# Altium footprint library BGA (1.27mm Pitch, Square2).PcbLib: 13 footprints (part 2 of 2)
Each footprint in its own frame and in the unit in brackets; x right, y up, seen from the top. Pads: shape width x height; smd on the part's side, far side on the other; paste and mask are expansions set on the pad; w line width, h text height; cw(c..) or ccw(c..) is an arc to the next point about the centre after c.
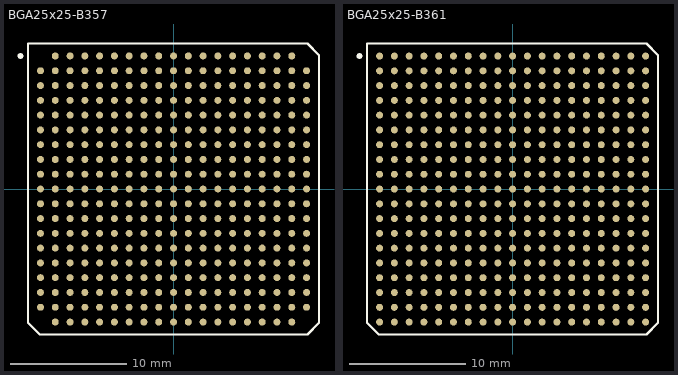
[diagram p1: the footprints below, top view; thin cyan lines are the x and y axes]

## BGA25x25-B357 [mm] "BGA; 357 Balls; Body 25 x 25 mm; Pitch 1.27 mm"
height 2.05
pads (357):
  round 0.6 smd: A2(-10.16,11.43) A3(-8.89,11.43) A4(-7.62,11.43) A5(-6.35,11.43) A6(-5.08,11.43) A7(-3.81,11.43) A8(-2.54,11.43) A9(-1.27,11.43) A10(0,11.43) A11(1.27,11.43) A12(2.54,11.43) A13(3.81,11.43) A14(5.08,11.43) A15(6.35,11.43) A16(7.62,11.43) A17(8.89,11.43) A18(10.16,11.43) B1(-11.43,10.16) B2(-10.16,10.16) B3(-8.89,10.16) B4(-7.62,10.16) B5(-6.35,10.16) B6(-5.08,10.16) B7(-3.81,10.16) B8(-2.54,10.16) B9(-1.27,10.16) B10(0,10.16) B11(1.27,10.16) B12(2.54,10.16) B13(3.81,10.16) B14(5.08,10.16) B15(6.35,10.16) B16(7.62,10.16) B17(8.89,10.16) B18(10.16,10.16) B19(11.43,10.16) C1(-11.43,8.89) C2(-10.16,8.89) C3(-8.89,8.89) C4(-7.62,8.89) C5(-6.35,8.89) C6(-5.08,8.89) C7(-3.81,8.89) C8(-2.54,8.89) C9(-1.27,8.89) C10(0,8.89) C11(1.27,8.89) C12(2.54,8.89) C13(3.81,8.89) C14(5.08,8.89) C15(6.35,8.89) C16(7.62,8.89) C17(8.89,8.89) C18(10.16,8.89) C19(11.43,8.89) D1(-11.43,7.62) D2(-10.16,7.62) D3(-8.89,7.62) D4(-7.62,7.62) D5(-6.35,7.62) D6(-5.08,7.62) D7(-3.81,7.62) D8(-2.54,7.62) D9(-1.27,7.62) D10(0,7.62) D11(1.27,7.62) D12(2.54,7.62) D13(3.81,7.62) D14(5.08,7.62) D15(6.35,7.62) D16(7.62,7.62) D17(8.89,7.62) D18(10.16,7.62) D19(11.43,7.62) E1(-11.43,6.35) E2(-10.16,6.35) E3(-8.89,6.35) E4(-7.62,6.35) E5(-6.35,6.35) E6(-5.08,6.35) E7(-3.81,6.35) E8(-2.54,6.35) E9(-1.27,6.35) E10(0,6.35) E11(1.27,6.35) E12(2.54,6.35) E13(3.81,6.35) E14(5.08,6.35) E15(6.35,6.35) E16(7.62,6.35) E17(8.89,6.35) E18(10.16,6.35) E19(11.43,6.35) F1(-11.43,5.08) F2(-10.16,5.08) F3(-8.89,5.08) F4(-7.62,5.08) F5(-6.35,5.08) F6(-5.08,5.08) F7(-3.81,5.08) F8(-2.54,5.08) F9(-1.27,5.08) F10(0,5.08) F11(1.27,5.08) F12(2.54,5.08) F13(3.81,5.08) F14(5.08,5.08) F15(6.35,5.08) F16(7.62,5.08) F17(8.89,5.08) F18(10.16,5.08) F19(11.43,5.08) G1(-11.43,3.81) G2(-10.16,3.81) G3(-8.89,3.81) G4(-7.62,3.81) G5(-6.35,3.81) G6(-5.08,3.81) G7(-3.81,3.81) G8(-2.54,3.81) G9(-1.27,3.81) G10(0,3.81) G11(1.27,3.81) G12(2.54,3.81) G13(3.81,3.81) G14(5.08,3.81) G15(6.35,3.81) G16(7.62,3.81) G17(8.89,3.81) G18(10.16,3.81) G19(11.43,3.81) H1(-11.43,2.54) H2(-10.16,2.54) H3(-8.89,2.54) H4(-7.62,2.54) H5(-6.35,2.54) H6(-5.08,2.54) H7(-3.81,2.54) H8(-2.54,2.54) H9(-1.27,2.54) H10(0,2.54) H11(1.27,2.54) H12(2.54,2.54) H13(3.81,2.54) H14(5.08,2.54) H15(6.35,2.54) H16(7.62,2.54) H17(8.89,2.54) H18(10.16,2.54) H19(11.43,2.54) J1(-11.43,1.27) J2(-10.16,1.27) J3(-8.89,1.27) J4(-7.62,1.27) J5(-6.35,1.27) J6(-5.08,1.27) J7(-3.81,1.27) J8(-2.54,1.27) J9(-1.27,1.27) J10(0,1.27) J11(1.27,1.27) J12(2.54,1.27) J13(3.81,1.27) J14(5.08,1.27) J15(6.35,1.27) J16(7.62,1.27) J17(8.89,1.27) J18(10.16,1.27) J19(11.43,1.27) K1(-11.43,0) K2(-10.16,0) K3(-8.89,0) K4(-7.62,0) K5(-6.35,0) K6(-5.08,0) K7(-3.81,0) K8(-2.54,0) K9(-1.27,0) K10(0,0) K11(1.27,0) K12(2.54,0) K13(3.81,0) K14(5.08,0) K15(6.35,0) K16(7.62,0) K17(8.89,0) K18(10.16,0) K19(11.43,0) L1(-11.43,-1.27) L2(-10.16,-1.27) L3(-8.89,-1.27) L4(-7.62,-1.27) L5(-6.35,-1.27) L6(-5.08,-1.27) L7(-3.81,-1.27) L8(-2.54,-1.27) L9(-1.27,-1.27) L10(0,-1.27) L11(1.27,-1.27) L12(2.54,-1.27) L13(3.81,-1.27) L14(5.08,-1.27) L15(6.35,-1.27) L16(7.62,-1.27) L17(8.89,-1.27) L18(10.16,-1.27) L19(11.43,-1.27) M1(-11.43,-2.54) M2(-10.16,-2.54) M3(-8.89,-2.54) M4(-7.62,-2.54) M5(-6.35,-2.54) M6(-5.08,-2.54) M7(-3.81,-2.54) M8(-2.54,-2.54) M9(-1.27,-2.54) M10(0,-2.54) M11(1.27,-2.54) M12(2.54,-2.54) M13(3.81,-2.54) M14(5.08,-2.54) M15(6.35,-2.54) M16(7.62,-2.54) M17(8.89,-2.54) M18(10.16,-2.54) M19(11.43,-2.54) N1(-11.43,-3.81) N2(-10.16,-3.81) N3(-8.89,-3.81) N4(-7.62,-3.81) N5(-6.35,-3.81) N6(-5.08,-3.81) N7(-3.81,-3.81) N8(-2.54,-3.81) N9(-1.27,-3.81) N10(0,-3.81) N11(1.27,-3.81) N12(2.54,-3.81) N13(3.81,-3.81) N14(5.08,-3.81) N15(6.35,-3.81) N16(7.62,-3.81) N17(8.89,-3.81) N18(10.16,-3.81) N19(11.43,-3.81) P1(-11.43,-5.08) P2(-10.16,-5.08) P3(-8.89,-5.08) P4(-7.62,-5.08) P5(-6.35,-5.08) P6(-5.08,-5.08) P7(-3.81,-5.08) P8(-2.54,-5.08) P9(-1.27,-5.08) P10(0,-5.08) P11(1.27,-5.08) P12(2.54,-5.08) P13(3.81,-5.08) P14(5.08,-5.08) P15(6.35,-5.08) P16(7.62,-5.08) P17(8.89,-5.08) P18(10.16,-5.08) P19(11.43,-5.08) R1(-11.43,-6.35) R2(-10.16,-6.35) R3(-8.89,-6.35) R4(-7.62,-6.35) R5(-6.35,-6.35) R6(-5.08,-6.35) R7(-3.81,-6.35) R8(-2.54,-6.35) R9(-1.27,-6.35) R10(0,-6.35) R11(1.27,-6.35) R12(2.54,-6.35) R13(3.81,-6.35) R14(5.08,-6.35) R15(6.35,-6.35) R16(7.62,-6.35) R17(8.89,-6.35) R18(10.16,-6.35) R19(11.43,-6.35) S1(-11.43,-7.62) S2(-10.16,-7.62) S3(-8.89,-7.62) S4(-7.62,-7.62) S5(-6.35,-7.62) S6(-5.08,-7.62) S7(-3.81,-7.62) S8(-2.54,-7.62) S9(-1.27,-7.62) S10(0,-7.62) S11(1.27,-7.62) S12(2.54,-7.62) S13(3.81,-7.62) S14(5.08,-7.62) S15(6.35,-7.62) S16(7.62,-7.62) S17(8.89,-7.62) S18(10.16,-7.62) S19(11.43,-7.62) T1(-11.43,-8.89) T2(-10.16,-8.89) T3(-8.89,-8.89) T4(-7.62,-8.89) T5(-6.35,-8.89) T6(-5.08,-8.89) T7(-3.81,-8.89) T8(-2.54,-8.89) T9(-1.27,-8.89) T10(0,-8.89) T11(1.27,-8.89) T12(2.54,-8.89) T13(3.81,-8.89) T14(5.08,-8.89) T15(6.35,-8.89) T16(7.62,-8.89) T17(8.89,-8.89) T18(10.16,-8.89) T19(11.43,-8.89) U1(-11.43,-10.16) U2(-10.16,-10.16) U3(-8.89,-10.16) U4(-7.62,-10.16) U5(-6.35,-10.16) U6(-5.08,-10.16) U7(-3.81,-10.16) U8(-2.54,-10.16) U9(-1.27,-10.16) U10(0,-10.16) U11(1.27,-10.16) U12(2.54,-10.16) U13(3.81,-10.16) U14(5.08,-10.16) U15(6.35,-10.16) U16(7.62,-10.16) U17(8.89,-10.16) U18(10.16,-10.16) U19(11.43,-10.16) V2(-10.16,-11.43) V3(-8.89,-11.43) V4(-7.62,-11.43) V5(-6.35,-11.43) V6(-5.08,-11.43) V7(-3.81,-11.43) V8(-2.54,-11.43) V9(-1.27,-11.43) V10(0,-11.43) V11(1.27,-11.43) V12(2.54,-11.43) V13(3.81,-11.43) V14(5.08,-11.43) V15(6.35,-11.43) V16(7.62,-11.43) V17(8.89,-11.43) V18(10.16,-11.43)
Top Overlay:
  circle w0.25: c-13.15,11.43 r0.125
  lines w0.2: -12.5,-11.5 -11.5,-12.5 11.5,-12.5 12.5,-11.5 12.5,11.5 11.5,12.5 -12.5,12.5 -12.5,-11.5

## BGA25x25-B361 [mm] "BGA; 361 Balls; Body 25 x 25 mm; Pitch 1.27 mm"
height 3.5
pads (361):
  round 0.6 smd: A1(-11.43,11.43) A2(-10.16,11.43) A3(-8.89,11.43) A4(-7.62,11.43) A5(-6.35,11.43) A6(-5.08,11.43) A7(-3.81,11.43) A8(-2.54,11.43) A9(-1.27,11.43) A10(0,11.43) A11(1.27,11.43) A12(2.54,11.43) A13(3.81,11.43) A14(5.08,11.43) A15(6.35,11.43) A16(7.62,11.43) A17(8.89,11.43) A18(10.16,11.43) A19(11.43,11.43) B1(-11.43,10.16) B2(-10.16,10.16) B3(-8.89,10.16) B4(-7.62,10.16) B5(-6.35,10.16) B6(-5.08,10.16) B7(-3.81,10.16) B8(-2.54,10.16) B9(-1.27,10.16) B10(0,10.16) B11(1.27,10.16) B12(2.54,10.16) B13(3.81,10.16) B14(5.08,10.16) B15(6.35,10.16) B16(7.62,10.16) B17(8.89,10.16) B18(10.16,10.16) B19(11.43,10.16) C1(-11.43,8.89) C2(-10.16,8.89) C3(-8.89,8.89) C4(-7.62,8.89) C5(-6.35,8.89) C6(-5.08,8.89) C7(-3.81,8.89) C8(-2.54,8.89) C9(-1.27,8.89) C10(0,8.89) C11(1.27,8.89) C12(2.54,8.89) C13(3.81,8.89) C14(5.08,8.89) C15(6.35,8.89) C16(7.62,8.89) C17(8.89,8.89) C18(10.16,8.89) C19(11.43,8.89) D1(-11.43,7.62) D2(-10.16,7.62) D3(-8.89,7.62) D4(-7.62,7.62) D5(-6.35,7.62) D6(-5.08,7.62) D7(-3.81,7.62) D8(-2.54,7.62) D9(-1.27,7.62) D10(0,7.62) D11(1.27,7.62) D12(2.54,7.62) D13(3.81,7.62) D14(5.08,7.62) D15(6.35,7.62) D16(7.62,7.62) D17(8.89,7.62) D18(10.16,7.62) D19(11.43,7.62) E1(-11.43,6.35) E2(-10.16,6.35) E3(-8.89,6.35) E4(-7.62,6.35) E5(-6.35,6.35) E6(-5.08,6.35) E7(-3.81,6.35) E8(-2.54,6.35) E9(-1.27,6.35) E10(0,6.35) E11(1.27,6.35) E12(2.54,6.35) E13(3.81,6.35) E14(5.08,6.35) E15(6.35,6.35) E16(7.62,6.35) E17(8.89,6.35) E18(10.16,6.35) E19(11.43,6.35) F1(-11.43,5.08) F2(-10.16,5.08) F3(-8.89,5.08) F4(-7.62,5.08) F5(-6.35,5.08) F6(-5.08,5.08) F7(-3.81,5.08) F8(-2.54,5.08) F9(-1.27,5.08) F10(0,5.08) F11(1.27,5.08) F12(2.54,5.08) F13(3.81,5.08) F14(5.08,5.08) F15(6.35,5.08) F16(7.62,5.08) F17(8.89,5.08) F18(10.16,5.08) F19(11.43,5.08) G1(-11.43,3.81) G2(-10.16,3.81) G3(-8.89,3.81) G4(-7.62,3.81) G5(-6.35,3.81) G6(-5.08,3.81) G7(-3.81,3.81) G8(-2.54,3.81) G9(-1.27,3.81) G10(0,3.81) G11(1.27,3.81) G12(2.54,3.81) G13(3.81,3.81) G14(5.08,3.81) G15(6.35,3.81) G16(7.62,3.81) G17(8.89,3.81) G18(10.16,3.81) G19(11.43,3.81) H1(-11.43,2.54) H2(-10.16,2.54) H3(-8.89,2.54) H4(-7.62,2.54) H5(-6.35,2.54) H6(-5.08,2.54) H7(-3.81,2.54) H8(-2.54,2.54) H9(-1.27,2.54) H10(0,2.54) H11(1.27,2.54) H12(2.54,2.54) H13(3.81,2.54) H14(5.08,2.54) H15(6.35,2.54) H16(7.62,2.54) H17(8.89,2.54) H18(10.16,2.54) H19(11.43,2.54) J1(-11.43,1.27) J2(-10.16,1.27) J3(-8.89,1.27) J4(-7.62,1.27) J5(-6.35,1.27) J6(-5.08,1.27) J7(-3.81,1.27) J8(-2.54,1.27) J9(-1.27,1.27) J10(0,1.27) J11(1.27,1.27) J12(2.54,1.27) J13(3.81,1.27) J14(5.08,1.27) J15(6.35,1.27) J16(7.62,1.27) J17(8.89,1.27) J18(10.16,1.27) J19(11.43,1.27) K1(-11.43,0) K2(-10.16,0) K3(-8.89,0) K4(-7.62,0) K5(-6.35,0) K6(-5.08,0) K7(-3.81,0) K8(-2.54,0) K9(-1.27,0) K10(0,0) K11(1.27,0) K12(2.54,0) K13(3.81,0) K14(5.08,0) K15(6.35,0) K16(7.62,0) K17(8.89,0) K18(10.16,0) K19(11.43,0) L1(-11.43,-1.27) L2(-10.16,-1.27) L3(-8.89,-1.27) L4(-7.62,-1.27) L5(-6.35,-1.27) L6(-5.08,-1.27) L7(-3.81,-1.27) L8(-2.54,-1.27) L9(-1.27,-1.27) L10(0,-1.27) L11(1.27,-1.27) L12(2.54,-1.27) L13(3.81,-1.27) L14(5.08,-1.27) L15(6.35,-1.27) L16(7.62,-1.27) L17(8.89,-1.27) L18(10.16,-1.27) L19(11.43,-1.27) M1(-11.43,-2.54) M2(-10.16,-2.54) M3(-8.89,-2.54) M4(-7.62,-2.54) M5(-6.35,-2.54) M6(-5.08,-2.54) M7(-3.81,-2.54) M8(-2.54,-2.54) M9(-1.27,-2.54) M10(0,-2.54) M11(1.27,-2.54) M12(2.54,-2.54) M13(3.81,-2.54) M14(5.08,-2.54) M15(6.35,-2.54) M16(7.62,-2.54) M17(8.89,-2.54) M18(10.16,-2.54) M19(11.43,-2.54) N1(-11.43,-3.81) N2(-10.16,-3.81) N3(-8.89,-3.81) N4(-7.62,-3.81) N5(-6.35,-3.81) N6(-5.08,-3.81) N7(-3.81,-3.81) N8(-2.54,-3.81) N9(-1.27,-3.81) N10(0,-3.81) N11(1.27,-3.81) N12(2.54,-3.81) N13(3.81,-3.81) N14(5.08,-3.81) N15(6.35,-3.81) N16(7.62,-3.81) N17(8.89,-3.81) N18(10.16,-3.81) N19(11.43,-3.81) P1(-11.43,-5.08) P2(-10.16,-5.08) P3(-8.89,-5.08) P4(-7.62,-5.08) P5(-6.35,-5.08) P6(-5.08,-5.08) P7(-3.81,-5.08) P8(-2.54,-5.08) P9(-1.27,-5.08) P10(0,-5.08) P11(1.27,-5.08) P12(2.54,-5.08) P13(3.81,-5.08) P14(5.08,-5.08) P15(6.35,-5.08) P16(7.62,-5.08) P17(8.89,-5.08) P18(10.16,-5.08) P19(11.43,-5.08) R1(-11.43,-6.35) R2(-10.16,-6.35) R3(-8.89,-6.35) R4(-7.62,-6.35) R5(-6.35,-6.35) R6(-5.08,-6.35) R7(-3.81,-6.35) R8(-2.54,-6.35) R9(-1.27,-6.35) R10(0,-6.35) R11(1.27,-6.35) R12(2.54,-6.35) R13(3.81,-6.35) R14(5.08,-6.35) R15(6.35,-6.35) R16(7.62,-6.35) R17(8.89,-6.35) R18(10.16,-6.35) R19(11.43,-6.35) T1(-11.43,-7.62) T2(-10.16,-7.62) T3(-8.89,-7.62) T4(-7.62,-7.62) T5(-6.35,-7.62) T6(-5.08,-7.62) T7(-3.81,-7.62) T8(-2.54,-7.62) T9(-1.27,-7.62) T10(0,-7.62) T11(1.27,-7.62) T12(2.54,-7.62) T13(3.81,-7.62) T14(5.08,-7.62) T15(6.35,-7.62) T16(7.62,-7.62) T17(8.89,-7.62) T18(10.16,-7.62) T19(11.43,-7.62) U1(-11.43,-8.89) U2(-10.16,-8.89) U3(-8.89,-8.89) U4(-7.62,-8.89) U5(-6.35,-8.89) U6(-5.08,-8.89) U7(-3.81,-8.89) U8(-2.54,-8.89) U9(-1.27,-8.89) U10(0,-8.89) U11(1.27,-8.89) U12(2.54,-8.89) U13(3.81,-8.89) U14(5.08,-8.89) U15(6.35,-8.89) U16(7.62,-8.89) U17(8.89,-8.89) U18(10.16,-8.89) U19(11.43,-8.89) V1(-11.43,-10.16) V2(-10.16,-10.16) V3(-8.89,-10.16) V4(-7.62,-10.16) V5(-6.35,-10.16) V6(-5.08,-10.16) V7(-3.81,-10.16) V8(-2.54,-10.16) V9(-1.27,-10.16) V10(0,-10.16) V11(1.27,-10.16) V12(2.54,-10.16) V13(3.81,-10.16) V14(5.08,-10.16) V15(6.35,-10.16) V16(7.62,-10.16) V17(8.89,-10.16) V18(10.16,-10.16) V19(11.43,-10.16) W1(-11.43,-11.43) W2(-10.16,-11.43) W3(-8.89,-11.43) W4(-7.62,-11.43) W5(-6.35,-11.43) W6(-5.08,-11.43) W7(-3.81,-11.43) W8(-2.54,-11.43) W9(-1.27,-11.43) W10(0,-11.43) W11(1.27,-11.43) W12(2.54,-11.43) W13(3.81,-11.43) W14(5.08,-11.43) W15(6.35,-11.43) W16(7.62,-11.43) W17(8.89,-11.43) W18(10.16,-11.43) W19(11.43,-11.43)
Top Overlay:
  circle w0.25: c-13.16,11.43 r0.125
  lines w0.2: -12.505,-11.495 -12.505,12.505 11.495,12.505 12.495,11.505 12.495,-11.495 11.495,-12.495 -11.505,-12.495 -12.505,-11.495